# EAGLE library part M80-532 (library LED_Driver_Board)
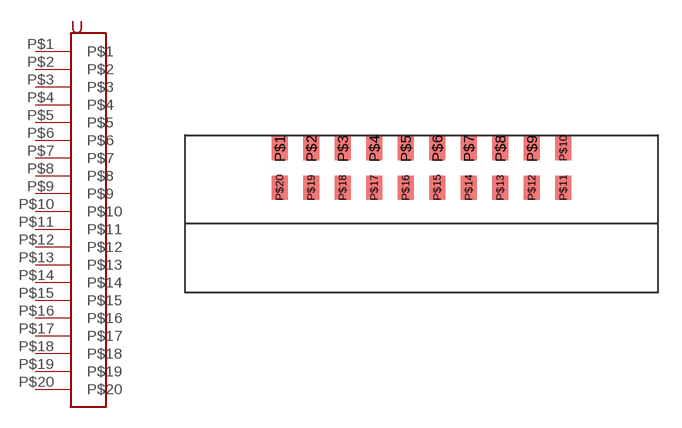
[diagram p2: symbol with the pads of M80-532XXXX(20PIN); footprint M80-532XXXX(20PIN)]

Designator prefix -

## M80-5322042  [M80-532XXXX(20PIN)]
P$1  P$1
P$2  P$2
P$3  P$3
P$4  P$4
P$5  P$5
P$6  P$6
P$7  P$7
P$8  P$8
P$9  P$9
P$10  P$10
P$11  P$11
P$12  P$12
P$13  P$13
P$14  P$14
P$15  P$15
P$16  P$16
P$17  P$17
P$18  P$18
P$19  P$19
P$20  P$20

## Footprint M80-532XXXX(20PIN) (pad centres in mm)
smd 1 x 1.5: P$1 0,0; P$2 2,0; P$3 4,0; P$4 6,0; P$5 8,0; P$6 10,0; P$7 12,0; P$8 14,0; P$9 16,0; P$10 18,0; P$11 18,-2.5; P$12 16,-2.5; P$13 14,-2.5; P$14 12,-2.5; P$15 10,-2.5; P$16 8,-2.5; P$17 6,-2.5; P$18 4,-2.5; P$19 2,-2.5; P$20 0,-2.5